# Altium integrated library USB.IntLib: 111 symbols (part 1 of 3)
Pins are listed as number, name and electrical type; pins without a type are passive.

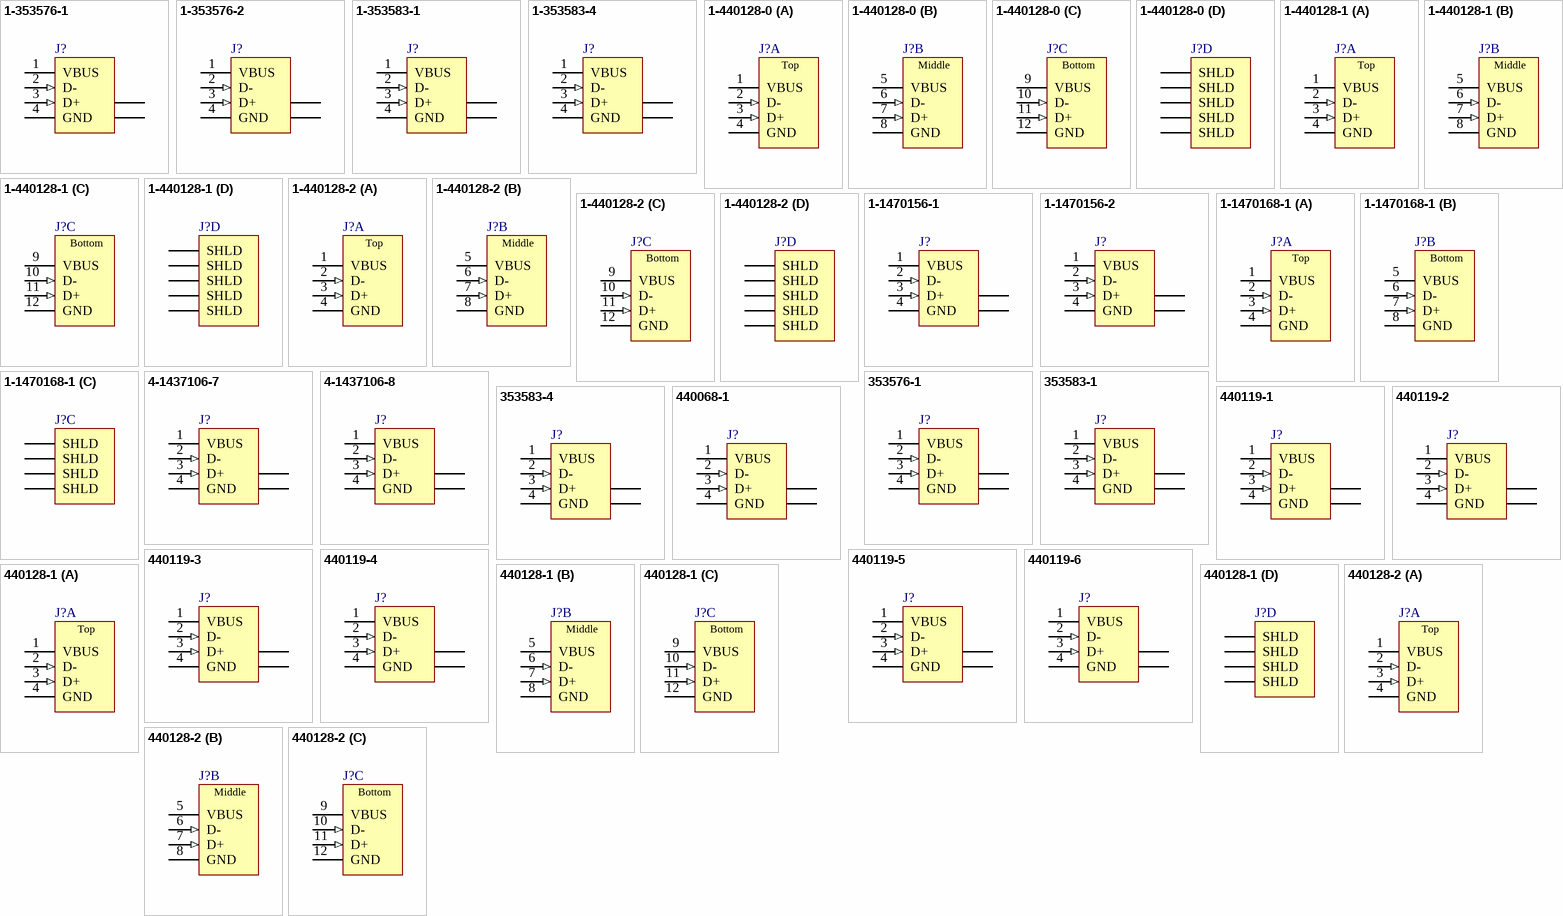
[diagram p0: symbols 1-353576-1 to 440128-2]

## 1-353576-1
designator J?
USB 1.1, Right Angle, SMT, A Type, Receptacle, 4 Position, White; ContactMaterial: Copper Alloy; ContactPlating: Gold over Palladium Nickel; PCB_Layout: Complies with manufacturer's recommendation.; DrillSize: Corresponds to nominal value.; PanelGround: Without; Published: 15-Jul-2004; DatasheetDocument: 11-Apr-2003; PackageDocument: 11-Apr-2003; PackageReference: 353576; Publisher: Altium Limited; HousingMaterial: Thermoplastic; ComponentLink1Description: Manufacturer Link; ComponentLink1URL: http://www.tycoelectronics.com/; ComponentLink2Description: Packaging Specification; ComponentLink2URL: http://ecommas.tycoelectronics.com/commerce/DocumentDelivery/DDEController?Action=showdoc&DocId=Customer+Drawing%7F353576%7FD%7Ftif%7FJapanese%7FJPN_CD_353576_D.tif
footprint 353576 (Connector; USB1.1, Type A, SM; 4 Position; Right Angle)
signal-integrity model USB1.1
pins: 1 VBUS (power) "Power", 2 D- (in) "-DATA", 3 D+ (in) "+DATA", 4 GND (power) "Ground", 5 SHLD "Shield", 6 SHLD "Shield"

## 1-353576-2
designator J?
USB 1.1, Right Angle, SMT, A Type, Receptacle, 4 Position, Black; ContactMaterial: Copper Alloy; ContactPlating: Gold over Palladium Nickel; PCB_Layout: Complies with manufacturer's recommendation.; DrillSize: Corresponds to nominal value.; PanelGround: Without; Published: 15-Jul-2004; DatasheetDocument: 11-Apr-2003; PackageDocument: 11-Apr-2003; PackageReference: 353576; Publisher: Altium Limited; HousingMaterial: Thermoplastic; ComponentLink1Description: Manufacturer Link; ComponentLink1URL: http://www.tycoelectronics.com/; ComponentLink2Description: Packaging Specification; ComponentLink2URL: http://ecommas.tycoelectronics.com/commerce/DocumentDelivery/DDEController?Action=showdoc&DocId=Customer+Drawing%7F353576%7FD%7Ftif%7FJapanese%7FJPN_CD_353576_D.tif
footprint 353576 (Connector; USB1.1, Type A, SM; 4 Position; Right Angle)
signal-integrity model USB1.1
pins: 1 VBUS (power) "Power", 2 D- (in) "-DATA", 3 D+ (in) "+DATA", 4 GND (power) "Ground", 5 SHLD "Shield", 6 SHLD "Shield"

## 1-353583-1
designator J?
USB 1.1, Right Angle, SMT, A Type, Receptacle, 4 Position, White; ContactMaterial: Copper Alloy; ContactPlating: Gold over Palladium Nickel; PCB_Layout: Complies with manufacturer's recommendation.; DrillSize: Corresponds to nominal value.; PanelGround: Without; Published: 15-Jul-2004; DatasheetDocument: 11-Apr-2003; PackageDocument: 11-Apr-2003; PackageReference: 353583; Publisher: Altium Limited; HousingMaterial: Thermoplastic; ComponentLink1Description: Manufacturer Link; ComponentLink1URL: http://www.tycoelectronics.com/; ComponentLink2Description: Packaging Specification; ComponentLink2URL: http://ecommas.tycoelectronics.com/commerce/DocumentDelivery/DDEController?Action=showdoc&DocId=Customer+Drawing%7F353583%7FD%7Ftif%7FJapanese%7FJPN_CD_353583_D.tif
footprint 353583 (Connector; USB1.1, Type A, SM; 4 Position; Right Angle)
signal-integrity model USB1.1
pins: 1 VBUS (power) "Power", 2 D- (in) "-DATA", 3 D+ (in) "+DATA", 4 GND (power) "Ground", 5 SHLD "Shield", 6 SHLD "Shield"

## 1-353583-4
designator J?
USB 1.1, Right Angle, SMT, A Type, Receptacle, 4 Position, Black; ContactMaterial: Copper Alloy; ContactPlating: Gold over Palladium Nickel; PCB_Layout: Complies with manufacturer's recommendation.; DrillSize: Corresponds to nominal value.; PanelGround: Without; Published: 15-Jul-2004; DatasheetDocument: 11-Apr-2003; PackageDocument: 11-Apr-2003; PackageReference: 353583; Publisher: Altium Limited; HousingMaterial: Thermoplastic; ComponentLink1Description: Manufacturer Link; ComponentLink1URL: http://www.tycoelectronics.com/; ComponentLink2Description: Packaging Specification; ComponentLink2URL: http://ecommas.tycoelectronics.com/commerce/DocumentDelivery/DDEController?Action=showdoc&DocId=Customer+Drawing%7F353583%7FD%7Ftif%7FJapanese%7FJPN_CD_353583_D.tif
footprint 353583 (Connector; USB1.1, Type A, SM; 4 Position; Right Angle)
signal-integrity model USB1.1
pins: 1 VBUS (power) "Power", 2 D- (in) "-DATA", 3 D+ (in) "+DATA", 4 GND (power) "Ground", 5 SHLD "Shield", 6 SHLD "Shield"

## 1-440128-0
designator J?
USB 1.1, Right Angle, Thru-Hole, A Type, Receptacle, 4x4x4 Position, Triple Stacked, Black; ContactMaterial: Copper Alloy; ContactPlating: Gold (5) over Nickel; TerminationLength: 2.84mm [0.112in.]; PCB_Layout: Complies with manufacturer's recommendation.; DrillSize: Corresponds to nominal value.; PanelGround: Without; Published: 15-Jul-2004; DatasheetDocument: 21-Sep-2001; PackageDocument: 21-Sep-2001; PackageReference: 440128B; Publisher: Altium Limited; HousingMaterial: Thermoplastic; ComponentLink1Description: Manufacturer Link; ComponentLink1URL: http://www.tycoelectronics.com/; ComponentLink2Description: Packaging Specification; ComponentLink2URL: http://ecommas.tycoelectronics.com/commerce/DocumentDelivery/DDEController?Action=showdoc&DocId=Customer+Drawing%7F440128%7FA%7Ftif%7FEnglish%7FC_440128_A.tif
footprint 440128B (Connector; USB1.1, Type A, Thru-Hole; 4x4x4 Position; Right Angle)
signal-integrity model USB1.1
part A pins: 1 VBUS (power) "Power", 2 D- (in) "-DATA", 3 D+ (in) "+DATA", 4 GND (power) "Ground"
part B pins: 5 VBUS (power) "Power", 6 D- (in) "-DATA", 7 D+ (in) "+DATA", 8 GND (power) "Ground"
part C pins: 9 VBUS (power) "Power", 10 D- (in) "-DATA", 11 D+ (in) "+DATA", 12 GND (power) "Ground"
part D pins: 13 SHLD "Shield", 14 SHLD "Shield", 15 SHLD "Shield", 16 SHLD "Shield", 17 SHLD "Shield"
part A text: Top
part B text: Middle
part C text: Bottom

## 1-440128-1
designator J?
USB 1.1, Right Angle, Thru-Hole, A Type, Receptacle, 4x4x4 Position, Triple Stacked, White; ContactMaterial: Copper Alloy; ContactPlating: Gold (30) over Nickel; TerminationLength: 2.84mm [0.112in.]; PCB_Layout: Complies with manufacturer's recommendation.; DrillSize: Corresponds to nominal value.; PanelGround: Without; Published: 15-Jul-2004; DatasheetDocument: 21-Sep-2001; PackageDocument: 21-Sep-2001; PackageReference: 440128B; Publisher: Altium Limited; HousingMaterial: Thermoplastic; ComponentLink1Description: Manufacturer Link; ComponentLink1URL: http://www.tycoelectronics.com/; ComponentLink2Description: Packaging Specification; ComponentLink2URL: http://ecommas.tycoelectronics.com/commerce/DocumentDelivery/DDEController?Action=showdoc&DocId=Customer+Drawing%7F440128%7FA%7Ftif%7FEnglish%7FC_440128_A.tif
footprint 440128B (Connector; USB1.1, Type A, Thru-Hole; 4x4x4 Position; Right Angle)
signal-integrity model USB1.1
part A pins: 1 VBUS (power) "Power", 2 D- (in) "-DATA", 3 D+ (in) "+DATA", 4 GND (power) "Ground"
part B pins: 5 VBUS (power) "Power", 6 D- (in) "-DATA", 7 D+ (in) "+DATA", 8 GND (power) "Ground"
part C pins: 9 VBUS (power) "Power", 10 D- (in) "-DATA", 11 D+ (in) "+DATA", 12 GND (power) "Ground"
part D pins: 13 SHLD "Shield", 14 SHLD "Shield", 15 SHLD "Shield", 16 SHLD "Shield", 17 SHLD "Shield"
part A text: Top
part B text: Middle
part C text: Bottom

## 1-440128-2
designator J?
USB 1.1, Right Angle, Thru-Hole, A Type, Receptacle, 4x4x4 Position, Triple Stacked, Black; ContactMaterial: Copper Alloy; ContactPlating: Gold (30) over Nickel; TerminationLength: 2.84mm [0.112in.]; PCB_Layout: Complies with manufacturer's recommendation.; DrillSize: Corresponds to nominal value.; PanelGround: Without; Published: 15-Jul-2004; DatasheetDocument: 21-Sep-2001; PackageDocument: 21-Sep-2001; PackageReference: 440128B; Publisher: Altium Limited; HousingMaterial: Thermoplastic; ComponentLink1Description: Manufacturer Link; ComponentLink1URL: http://www.tycoelectronics.com/; ComponentLink2Description: Packaging Specification; ComponentLink2URL: http://ecommas.tycoelectronics.com/commerce/DocumentDelivery/DDEController?Action=showdoc&DocId=Customer+Drawing%7F440128%7FA%7Ftif%7FEnglish%7FC_440128_A.tif
footprint 440128B (Connector; USB1.1, Type A, Thru-Hole; 4x4x4 Position; Right Angle)
signal-integrity model USB1.1
part A pins: 1 VBUS (power) "Power", 2 D- (in) "-DATA", 3 D+ (in) "+DATA", 4 GND (power) "Ground"
part B pins: 5 VBUS (power) "Power", 6 D- (in) "-DATA", 7 D+ (in) "+DATA", 8 GND (power) "Ground"
part C pins: 9 VBUS (power) "Power", 10 D- (in) "-DATA", 11 D+ (in) "+DATA", 12 GND (power) "Ground"
part D pins: 13 SHLD "Shield", 14 SHLD "Shield", 15 SHLD "Shield", 16 SHLD "Shield", 17 SHLD "Shield"
part A text: Top
part B text: Middle
part C text: Bottom

## 1-1470156-1
designator J?
USB 1.1, Right Angle, Thru-Hole, B Type, Receptacle, 4 Position, White; ContactMaterial: Phosphor Bronze; ContactPlating: Gold over Nickel; TerminationLength: 3.00mm [0.118in.]; PCB_Layout: Complies with manufacturer's recommendation.; DrillSize: Corresponds to nominal value.; PanelGround: Without; Published: 15-Jul-2004; DatasheetDocument: 02-Jun-2001; PackageDocument: 02-Jun-2001; PackageReference: 1-1470156; Publisher: Altium Limited; HousingMaterial: Glass-Filled Thermoplastic; ComponentLink1Description: Manufacturer Link; ComponentLink1URL: http://www.tycoelectronics.com/; ComponentLink2Description: Packaging Specification; ComponentLink2URL: http://ecommas.tycoelectronics.com/commerce/DocumentDelivery/DDEController?Action=showdoc&DocId=Customer+Drawing%7F1470156%7FO%7Ftif%7FEnglish%7FC_1470156_O.tif
footprint 1-1470156 (Connector; USB1.1, Type B, Thru-Hole; 4 Position; Right Angle)
signal-integrity model USB1.1
pins: 1 VBUS (power) "Power", 2 D- (in) "-DATA", 3 D+ (in) "+DATA", 4 GND (power) "Ground", 5 SHLD "Shield", 6 SHLD "Shield"

## 1-1470156-2
designator J?
USB 1.1, Right Angle, Thru-Hole, B Type, Receptacle, 4 Position, Black; ContactMaterial: Phosphor Bronze; ContactPlating: Gold over Nickel; TerminationLength: 3.00mm [0.118in.]; PCB_Layout: Complies with manufacturer's recommendation.; DrillSize: Corresponds to nominal value.; PanelGround: Without; Published: 15-Jul-2004; DatasheetDocument: 02-Jun-2001; PackageDocument: 02-Jun-2001; PackageReference: 1-1470156; Publisher: Altium Limited; HousingMaterial: Glass-Filled Thermoplastic; ComponentLink1Description: Manufacturer Link; ComponentLink1URL: http://www.tycoelectronics.com/; ComponentLink2Description: Packaging Specification; ComponentLink2URL: http://ecommas.tycoelectronics.com/commerce/DocumentDelivery/DDEController?Action=showdoc&DocId=Customer+Drawing%7F1470156%7FO%7Ftif%7FEnglish%7FC_1470156_O.tif
footprint 1-1470156 (Connector; USB1.1, Type B, Thru-Hole; 4 Position; Right Angle)
signal-integrity model USB1.1
pins: 1 VBUS (power) "Power", 2 D- (in) "-DATA", 3 D+ (in) "+DATA", 4 GND (power) "Ground", 5 SHLD "Shield", 6 SHLD "Shield"

## 1-1470168-1
designator J?
USB 1.1, Right Angle, Thru-Hole, A Type, Receptacle, 4x4 Position, Stacked, Black; ContactMaterial: Copper Alloy; ContactPlating: Gold Flash; TerminationLength: 3.18mm [0.125in.]; PCB_Layout: Complies with manufacturer's recommendation.; DrillSize: Corresponds to nominal value.; PanelGround: With; Published: 15-Jul-2004; DatasheetDocument: 15-Aug-2002; PackageDocument: 15-Aug-2002; PackageReference: 1470168; Publisher: Altium Limited; HousingMaterial: Glass-Filled Thermoplastic; ComponentLink1Description: Manufacturer Link; ComponentLink1URL: http://www.tycoelectronics.com/; ComponentLink2Description: Packaging Specification; ComponentLink2URL: http://ecommas.tycoelectronics.com/commerce/DocumentDelivery/DDEController?Action=showdoc&DocId=Customer+Drawing%7F1470168%7FA%7Fpdf%7FEnglish%7FC_1470168_A.pdf
footprint 1470168 (Connector; USB1.1, Type A, Thru-Hole; 4x4 Position; Right Angle)
signal-integrity model USB1.1
part A pins: 1 VBUS (power) "Power", 2 D- (in) "-DATA", 3 D+ (in) "+DATA", 4 GND (power) "Ground"
part B pins: 5 VBUS (power) "Power", 6 D- (in) "-DATA", 7 D+ (in) "+DATA", 8 GND (power) "Ground"
part C pins: 9 SHLD "Shield", 10 SHLD "Shield", 11 SHLD "Shield", 12 SHLD "Shield"
part A text: Top
part B text: Bottom

## 4-1437106-7
designator J?
USB 1.1, Right Angle, Thru-Hole, B Type, Receptacle, 4 Position, White; ContactMaterial: Copper Alloy; ContactPlating: Gold (30); TerminationLength: 2.90mm [0.114in.]; PCB_Layout: Complies with manufacturer's recommendation.; DrillSize: Corresponds to nominal value.; PanelGround: Without; Published: 15-Jul-2004; DatasheetDocument: 05-Jan-2004; PackageDocument: 05-Jan-2004; PackageReference: 1437106; Publisher: Altium Limited; HousingMaterial: Glass-Filled Thermoplastic; ComponentLink1Description: Manufacturer Link; ComponentLink1URL: http://www.tycoelectronics.com/; ComponentLink2Description: Packaging Specification; ComponentLink2URL: http://ecommas.tycoelectronics.com/commerce/DocumentDelivery/DDEController?Action=showdoc&DocId=Customer+Drawing%7F1437106%7FC%7Ftif%7FEnglish%7FENG_CD_1437106_C.tif
footprint 1437106 (Connector; USB1.1, Type B, Thru-Hole; 4 Position; Right Angle)
signal-integrity model USB1.1
pins: 1 VBUS (power) "Power", 2 D- (in) "-DATA", 3 D+ (in) "+DATA", 4 GND (power) "Ground", 5 SHLD "Shield", 6 SHLD "Shield"

## 4-1437106-8
designator J?
USB 1.1, Right Angle, Thru-Hole, B Type, Receptacle, 4 Position, Natural; ContactMaterial: Copper Alloy; ContactPlating: Gold (30); TerminationLength: 2.90mm [0.114in.]; PCB_Layout: Complies with manufacturer's recommendation.; DrillSize: Corresponds to nominal value.; PanelGround: Without; Published: 15-Jul-2004; DatasheetDocument: 05-Jan-2004; PackageDocument: 05-Jan-2004; PackageReference: 1437106; Publisher: Altium Limited; HousingMaterial: Glass-Filled Thermoplastic; ComponentLink1Description: Manufacturer Link; ComponentLink1URL: http://www.tycoelectronics.com/; ComponentLink2Description: Packaging Specification; ComponentLink2URL: http://ecommas.tycoelectronics.com/commerce/DocumentDelivery/DDEController?Action=showdoc&DocId=Customer+Drawing%7F1437106%7FC%7Ftif%7FEnglish%7FENG_CD_1437106_C.tif
footprint 1437106 (Connector; USB1.1, Type B, Thru-Hole; 4 Position; Right Angle)
signal-integrity model USB1.1
pins: 1 VBUS (power) "Power", 2 D- (in) "-DATA", 3 D+ (in) "+DATA", 4 GND (power) "Ground", 5 SHLD "Shield", 6 SHLD "Shield"

## 353576-1
designator J?
USB 1.1, Right Angle, SMT, A Type, Receptacle, 4 Position, White; ContactMaterial: Copper Alloy; ContactPlating: Gold over Palladium Nickel; PCB_Layout: Complies with manufacturer's recommendation.; DrillSize: Corresponds to nominal value.; PanelGround: Without; Published: 15-Jul-2004; DatasheetDocument: 11-Apr-2003; PackageDocument: 11-Apr-2003; PackageReference: 353576; Publisher: Altium Limited; HousingMaterial: Thermoplastic; ComponentLink1Description: Manufacturer Link; ComponentLink1URL: http://www.tycoelectronics.com/; ComponentLink2Description: Packaging Specification; ComponentLink2URL: http://ecommas.tycoelectronics.com/commerce/DocumentDelivery/DDEController?Action=showdoc&DocId=Customer+Drawing%7F353576%7FD%7Ftif%7FJapanese%7FJPN_CD_353576_D.tif
footprint 353576 (Connector; USB1.1, Type A, SM; 4 Position; Right Angle)
signal-integrity model USB1.1
pins: 1 VBUS (power) "Power", 2 D- (in) "-DATA", 3 D+ (in) "+DATA", 4 GND (power) "Ground", 5 SHLD "Shield", 6 SHLD "Shield"

## 353583-1
designator J?
USB 1.1, Right Angle, SMT, A Type, Receptacle, 4 Position, White; ContactMaterial: Copper Alloy; ContactPlating: Gold over Palladium Nickel; PCB_Layout: Complies with manufacturer's recommendation.; DrillSize: Corresponds to nominal value.; PanelGround: Without; Published: 15-Jul-2004; DatasheetDocument: 11-Apr-2003; PackageDocument: 11-Apr-2003; PackageReference: 353583; Publisher: Altium Limited; HousingMaterial: Thermoplastic; ComponentLink1Description: Manufacturer Link; ComponentLink1URL: http://www.tycoelectronics.com/; ComponentLink2Description: Packaging Specification; ComponentLink2URL: http://ecommas.tycoelectronics.com/commerce/DocumentDelivery/DDEController?Action=showdoc&DocId=Customer+Drawing%7F353583%7FD%7Ftif%7FJapanese%7FJPN_CD_353583_D.tif
footprint 353583 (Connector; USB1.1, Type A, SM; 4 Position; Right Angle)
signal-integrity model USB1.1
pins: 1 VBUS (power) "Power", 2 D- (in) "-DATA", 3 D+ (in) "+DATA", 4 GND (power) "Ground", 5 SHLD "Shield", 6 SHLD "Shield"

## 353583-4
designator J?
USB 1.1, Right Angle, SMT, A Type, Receptacle, 4 Position, Black; ContactMaterial: Copper Alloy; ContactPlating: Gold over Palladium Nickel; PCB_Layout: Complies with manufacturer's recommendation.; DrillSize: Corresponds to nominal value.; PanelGround: Without; Published: 15-Jul-2004; DatasheetDocument: 11-Apr-2003; PackageDocument: 11-Apr-2003; PackageReference: 353583; Publisher: Altium Limited; HousingMaterial: Thermoplastic; ComponentLink1Description: Manufacturer Link; ComponentLink1URL: http://www.tycoelectronics.com/; ComponentLink2Description: Packaging Specification; ComponentLink2URL: http://ecommas.tycoelectronics.com/commerce/DocumentDelivery/DDEController?Action=showdoc&DocId=Customer+Drawing%7F353583%7FD%7Ftif%7FJapanese%7FJPN_CD_353583_D.tif
footprint 353583 (Connector; USB1.1, Type A, SM; 4 Position; Right Angle)
signal-integrity model USB1.1
pins: 1 VBUS (power) "Power", 2 D- (in) "-DATA", 3 D+ (in) "+DATA", 4 GND (power) "Ground", 5 SHLD "Shield", 6 SHLD "Shield"

## 440068-1
designator J?
USB 1.1, Right Angle, Thru-Hole, Reverse Type, Receptacle, 4 Position, Black; ContactMaterial: Copper Alloy; ContactPlating: Gold Flash; TerminationLength: 2.40mm [0.094in.]; PCB_Layout: Complies with manufacturer's recommendation.; DrillSize: Corresponds to nominal value.; PanelGround: Without; Published: 15-Jul-2004; DatasheetDocument: 18-Mar-2004; PackageDocument: 18-Mar-2004; PackageReference: 440068; Publisher: Altium Limited; HousingMaterial: Glass-Filled Thermoplastic; ComponentLink1Description: Manufacturer Link; ComponentLink1URL: http://www.tycoelectronics.com/; ComponentLink2Description: Packaging Specification; ComponentLink2URL: http://ecommas.tycoelectronics.com/commerce/DocumentDelivery/DDEController?Action=showdoc&DocId=Customer+Drawing%7F440068%7FD%7Ftif%7FEnglish%7FC_440068_D.tif
footprint 440068 (Connector; USB1.1, Reverse Type, Thru-Hole; 4 Position; Right Angle)
signal-integrity model USB1.1
pins: 1 VBUS (power) "Power", 2 D- (in) "-DATA", 3 D+ (in) "+DATA", 4 GND (power) "Ground", 5 SHLD "Shield", 6 SHLD "Shield"

## 440119-1
designator J?
USB 1.1, Right Angle, Thru-Hole, B Type, Receptacle, 4 Position, Beige; ContactMaterial: Copper Alloy; ContactPlating: Gold Flash over Nickel; TerminationLength: 2.84mm [0.112in.]; PCB_Layout: Complies with manufacturer's recommendation.; DrillSize: Corresponds to nominal value.; PanelGround: Without; Published: 15-Jul-2004; DatasheetDocument: 12-Jan-2004; PackageDocument: 12-Jan-2004; PackageReference: 440119; Publisher: Altium Limited; HousingMaterial: Thermoplastic; ComponentLink1Description: Manufacturer Link; ComponentLink1URL: http://www.tycoelectronics.com/; ComponentLink2Description: Packaging Specification; ComponentLink2URL: http://ecommas.tycoelectronics.com/commerce/DocumentDelivery/DDEController?Action=showdoc&DocId=Customer+Drawing%7F440119%7FC%7Ftif%7FEnglish%7FC_440119_C.tif
footprint 440119 (Connector; USB1.1, Type B, Thru-Hole; 4 Position; Right Angle)
signal-integrity model USB1.1
pins: 1 VBUS (power) "Power", 2 D- (in) "-DATA", 3 D+ (in) "+DATA", 4 GND (power) "Ground", 5 SHLD "Shield", 6 SHLD "Shield"

## 440119-2
designator J?
USB 1.1, Right Angle, Thru-Hole, B Type, Receptacle, 4 Position, Black; ContactMaterial: Copper Alloy; ContactPlating: Gold Flash over Nickel; TerminationLength: 2.84mm [0.112in.]; PCB_Layout: Complies with manufacturer's recommendation.; DrillSize: Corresponds to nominal value.; PanelGround: Without; Published: 15-Jul-2004; DatasheetDocument: 12-Jan-2004; PackageDocument: 12-Jan-2004; PackageReference: 440119; Publisher: Altium Limited; HousingMaterial: Thermoplastic; ComponentLink1Description: Manufacturer Link; ComponentLink1URL: http://www.tycoelectronics.com/; ComponentLink2Description: Packaging Specification; ComponentLink2URL: http://ecommas.tycoelectronics.com/commerce/DocumentDelivery/DDEController?Action=showdoc&DocId=Customer+Drawing%7F440119%7FC%7Ftif%7FEnglish%7FC_440119_C.tif
footprint 440119 (Connector; USB1.1, Type B, Thru-Hole; 4 Position; Right Angle)
signal-integrity model USB1.1
pins: 1 VBUS (power) "Power", 2 D- (in) "-DATA", 3 D+ (in) "+DATA", 4 GND (power) "Ground", 5 SHLD "Shield", 6 SHLD "Shield"

## 440119-3
designator J?
USB 1.1, Right Angle, Thru-Hole, B Type, Receptacle, 4 Position, Beige; ContactMaterial: Copper Alloy; ContactPlating: Gold (5) over Nickel; TerminationLength: 2.84mm [0.112in.]; PCB_Layout: Complies with manufacturer's recommendation.; DrillSize: Corresponds to nominal value.; PanelGround: Without; Published: 15-Jul-2004; DatasheetDocument: 12-Jan-2004; PackageDocument: 12-Jan-2004; PackageReference: 440119; Publisher: Altium Limited; HousingMaterial: Thermoplastic; ComponentLink1Description: Manufacturer Link; ComponentLink1URL: http://www.tycoelectronics.com/; ComponentLink2Description: Packaging Specification; ComponentLink2URL: http://ecommas.tycoelectronics.com/commerce/DocumentDelivery/DDEController?Action=showdoc&DocId=Customer+Drawing%7F440119%7FC%7Ftif%7FEnglish%7FC_440119_C.tif
footprint 440119 (Connector; USB1.1, Type B, Thru-Hole; 4 Position; Right Angle)
signal-integrity model USB1.1
pins: 1 VBUS (power) "Power", 2 D- (in) "-DATA", 3 D+ (in) "+DATA", 4 GND (power) "Ground", 5 SHLD "Shield", 6 SHLD "Shield"

## 440119-4
designator J?
USB 1.1, Right Angle, Thru-Hole, B Type, Receptacle, 4 Position, Black; ContactMaterial: Copper Alloy; ContactPlating: Gold (5) over Nickel; TerminationLength: 2.84mm [0.112in.]; PCB_Layout: Complies with manufacturer's recommendation.; DrillSize: Corresponds to nominal value.; PanelGround: Without; Published: 15-Jul-2004; DatasheetDocument: 12-Jan-2004; PackageDocument: 12-Jan-2004; PackageReference: 440119; Publisher: Altium Limited; HousingMaterial: Thermoplastic; ComponentLink1Description: Manufacturer Link; ComponentLink1URL: http://www.tycoelectronics.com/; ComponentLink2Description: Packaging Specification; ComponentLink2URL: http://ecommas.tycoelectronics.com/commerce/DocumentDelivery/DDEController?Action=showdoc&DocId=Customer+Drawing%7F440119%7FC%7Ftif%7FEnglish%7FC_440119_C.tif
footprint 440119 (Connector; USB1.1, Type B, Thru-Hole; 4 Position; Right Angle)
signal-integrity model USB1.1
pins: 1 VBUS (power) "Power", 2 D- (in) "-DATA", 3 D+ (in) "+DATA", 4 GND (power) "Ground", 5 SHLD "Shield", 6 SHLD "Shield"

## 440119-5
designator J?
USB 1.1, Right Angle, Thru-Hole, B Type, Receptacle, 4 Position, Beige; ContactMaterial: Copper Alloy; ContactPlating: Gold (30) over Nickel; TerminationLength: 2.84mm [0.112in.]; PCB_Layout: Complies with manufacturer's recommendation.; DrillSize: Corresponds to nominal value.; PanelGround: Without; Published: 15-Jul-2004; DatasheetDocument: 12-Jan-2004; PackageDocument: 12-Jan-2004; PackageReference: 440119; Publisher: Altium Limited; HousingMaterial: Thermoplastic; ComponentLink1Description: Manufacturer Link; ComponentLink1URL: http://www.tycoelectronics.com/; ComponentLink2Description: Packaging Specification; ComponentLink2URL: http://ecommas.tycoelectronics.com/commerce/DocumentDelivery/DDEController?Action=showdoc&DocId=Customer+Drawing%7F440119%7FC%7Ftif%7FEnglish%7FC_440119_C.tif
footprint 440119 (Connector; USB1.1, Type B, Thru-Hole; 4 Position; Right Angle)
signal-integrity model USB1.1
pins: 1 VBUS (power) "Power", 2 D- (in) "-DATA", 3 D+ (in) "+DATA", 4 GND (power) "Ground", 5 SHLD "Shield", 6 SHLD "Shield"

## 440119-6
designator J?
USB 1.1, Right Angle, Thru-Hole, B Type, Receptacle, 4 Position, Black; ContactMaterial: Copper Alloy; ContactPlating: Gold (30) over Nickel; TerminationLength: 2.84mm [0.112in.]; PCB_Layout: Complies with manufacturer's recommendation.; DrillSize: Corresponds to nominal value.; PanelGround: Without; Published: 15-Jul-2004; DatasheetDocument: 12-Jan-2004; PackageDocument: 12-Jan-2004; PackageReference: 440119; Publisher: Altium Limited; HousingMaterial: Thermoplastic; ComponentLink1Description: Manufacturer Link; ComponentLink1URL: http://www.tycoelectronics.com/; ComponentLink2Description: Packaging Specification; ComponentLink2URL: http://ecommas.tycoelectronics.com/commerce/DocumentDelivery/DDEController?Action=showdoc&DocId=Customer+Drawing%7F440119%7FC%7Ftif%7FEnglish%7FC_440119_C.tif
footprint 440119 (Connector; USB1.1, Type B, Thru-Hole; 4 Position; Right Angle)
signal-integrity model USB1.1
pins: 1 VBUS (power) "Power", 2 D- (in) "-DATA", 3 D+ (in) "+DATA", 4 GND (power) "Ground", 5 SHLD "Shield", 6 SHLD "Shield"

## 440128-1
designator J?
USB 1.1, Right Angle, Thru-Hole, A Type, Receptacle, 4x4x4 Position, Triple Stacked, White; ContactMaterial: Copper Alloy; ContactPlating: Gold Flash over Nickel; TerminationLength: 2.84mm [0.112in.]; PCB_Layout: Complies with manufacturer's recommendation.; DrillSize: Corresponds to nominal value.; PanelGround: Without; Published: 15-Jul-2004; DatasheetDocument: 21-Sep-2001; PackageDocument: 21-Sep-2001; PackageReference: 440128A; Publisher: Altium Limited; HousingMaterial: Thermoplastic; ComponentLink1Description: Manufacturer Link; ComponentLink1URL: http://www.tycoelectronics.com/; ComponentLink2Description: Packaging Specification; ComponentLink2URL: http://ecommas.tycoelectronics.com/commerce/DocumentDelivery/DDEController?Action=showdoc&DocId=Customer+Drawing%7F440128%7FA%7Ftif%7FEnglish%7FC_440128_A.tif
footprint 440128A (Connector; USB1.1, Type A, Thru-Hole; 4x4x4 Position; Right Angle)
signal-integrity model USB1.1
part A pins: 1 VBUS (power) "Power", 2 D- (in) "-DATA", 3 D+ (in) "+DATA", 4 GND (power) "Ground"
part B pins: 5 VBUS (power) "Power", 6 D- (in) "-DATA", 7 D+ (in) "+DATA", 8 GND (power) "Ground"
part C pins: 9 VBUS (power) "Power", 10 D- (in) "-DATA", 11 D+ (in) "+DATA", 12 GND (power) "Ground"
part D pins: 13 SHLD "Shield", 14 SHLD "Shield", 15 SHLD "Shield", 16 SHLD "Shield"
part A text: Top
part B text: Middle
part C text: Bottom

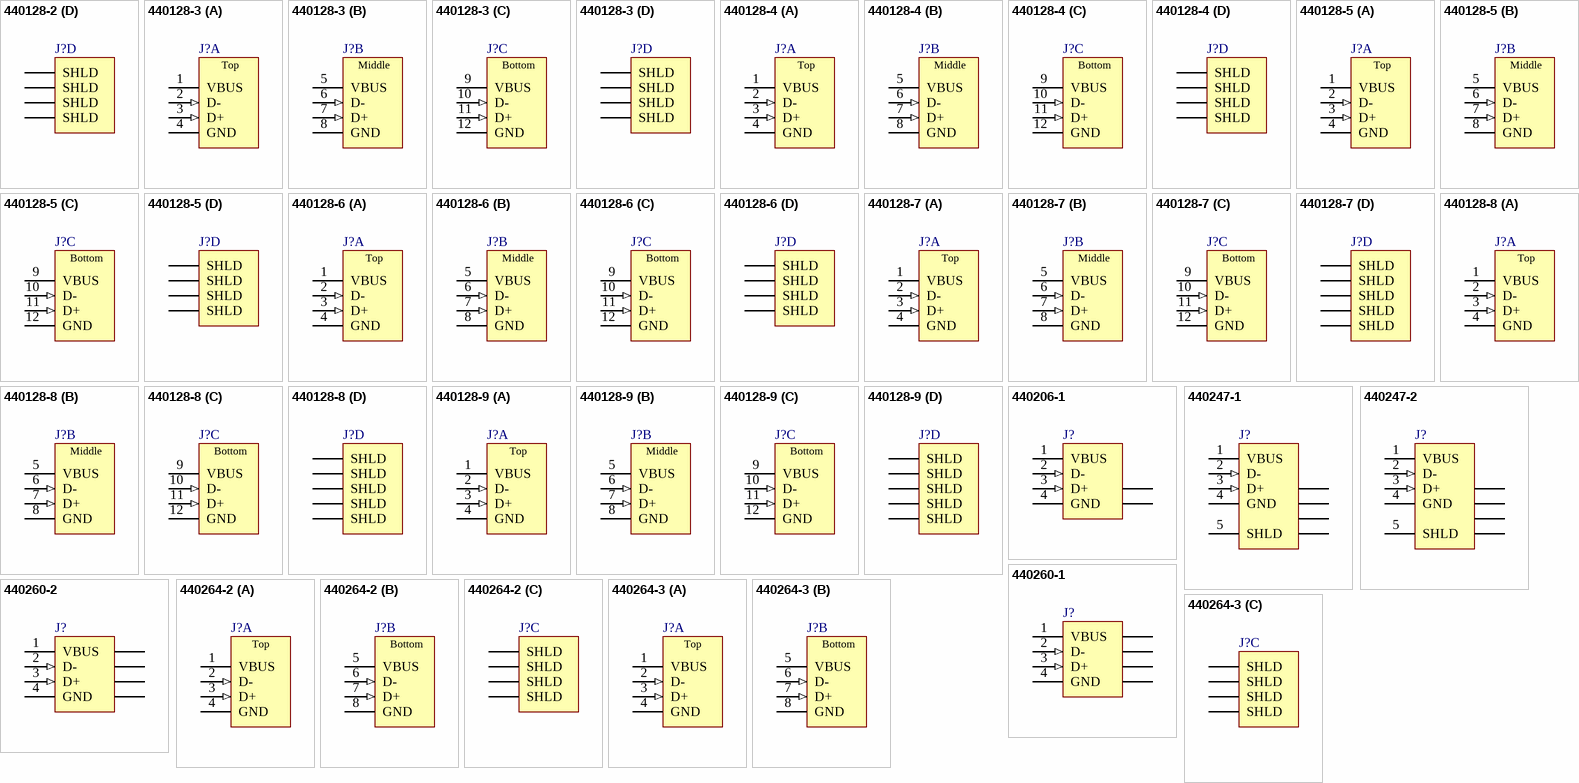
[diagram p1: symbols 440128-2 to 440264-3]

## 440128-2
designator J?
USB 1.1, Right Angle, Thru-Hole, A Type, Receptacle, 4x4x4 Position, Triple Stacked, Black; ContactMaterial: Copper Alloy; ContactPlating: Gold Flash over Nickel; TerminationLength: 2.84mm [0.112in.]; PCB_Layout: Complies with manufacturer's recommendation.; DrillSize: Corresponds to nominal value.; PanelGround: Without; Published: 15-Jul-2004; DatasheetDocument: 21-Sep-2001; PackageDocument: 21-Sep-2001; PackageReference: 440128A; Publisher: Altium Limited; HousingMaterial: Thermoplastic; ComponentLink1Description: Manufacturer Link; ComponentLink1URL: http://www.tycoelectronics.com/; ComponentLink2Description: Packaging Specification; ComponentLink2URL: http://ecommas.tycoelectronics.com/commerce/DocumentDelivery/DDEController?Action=showdoc&DocId=Customer+Drawing%7F440128%7FA%7Ftif%7FEnglish%7FC_440128_A.tif
footprint 440128A (Connector; USB1.1, Type A, Thru-Hole; 4x4x4 Position; Right Angle)
signal-integrity model USB1.1
part A pins: 1 VBUS (power) "Power", 2 D- (in) "-DATA", 3 D+ (in) "+DATA", 4 GND (power) "Ground"
part B pins: 5 VBUS (power) "Power", 6 D- (in) "-DATA", 7 D+ (in) "+DATA", 8 GND (power) "Ground"
part C pins: 9 VBUS (power) "Power", 10 D- (in) "-DATA", 11 D+ (in) "+DATA", 12 GND (power) "Ground"
part D pins: 13 SHLD "Shield", 14 SHLD "Shield", 15 SHLD "Shield", 16 SHLD "Shield"
part A text: Top
part B text: Middle
part C text: Bottom

## 440128-3
designator J?
USB 1.1, Right Angle, Thru-Hole, A Type, Receptacle, 4x4x4 Position, Triple Stacked, White; ContactMaterial: Copper Alloy; ContactPlating: Gold (5) over Nickel; TerminationLength: 2.84mm [0.112in.]; PCB_Layout: Complies with manufacturer's recommendation.; DrillSize: Corresponds to nominal value.; PanelGround: Without; Published: 15-Jul-2004; DatasheetDocument: 21-Sep-2001; PackageDocument: 21-Sep-2001; PackageReference: 440128A; Publisher: Altium Limited; HousingMaterial: Thermoplastic; ComponentLink1Description: Manufacturer Link; ComponentLink1URL: http://www.tycoelectronics.com/; ComponentLink2Description: Packaging Specification; ComponentLink2URL: http://ecommas.tycoelectronics.com/commerce/DocumentDelivery/DDEController?Action=showdoc&DocId=Customer+Drawing%7F440128%7FA%7Ftif%7FEnglish%7FC_440128_A.tif
footprint 440128A (Connector; USB1.1, Type A, Thru-Hole; 4x4x4 Position; Right Angle)
signal-integrity model USB1.1
part A pins: 1 VBUS (power) "Power", 2 D- (in) "-DATA", 3 D+ (in) "+DATA", 4 GND (power) "Ground"
part B pins: 5 VBUS (power) "Power", 6 D- (in) "-DATA", 7 D+ (in) "+DATA", 8 GND (power) "Ground"
part C pins: 9 VBUS (power) "Power", 10 D- (in) "-DATA", 11 D+ (in) "+DATA", 12 GND (power) "Ground"
part D pins: 13 SHLD "Shield", 14 SHLD "Shield", 15 SHLD "Shield", 16 SHLD "Shield"
part A text: Top
part B text: Middle
part C text: Bottom

## 440128-4
designator J?
USB 1.1, Right Angle, Thru-Hole, A Type, Receptacle, 4x4x4 Position, Triple Stacked, Black; ContactMaterial: Copper Alloy; ContactPlating: Gold (5) over Nickel; TerminationLength: 2.84mm [0.112in.]; PCB_Layout: Complies with manufacturer's recommendation.; DrillSize: Corresponds to nominal value.; PanelGround: Without; Published: 15-Jul-2004; DatasheetDocument: 21-Sep-2001; PackageDocument: 21-Sep-2001; PackageReference: 440128A; Publisher: Altium Limited; HousingMaterial: Thermoplastic; ComponentLink1Description: Manufacturer Link; ComponentLink1URL: http://www.tycoelectronics.com/; ComponentLink2Description: Packaging Specification; ComponentLink2URL: http://ecommas.tycoelectronics.com/commerce/DocumentDelivery/DDEController?Action=showdoc&DocId=Customer+Drawing%7F440128%7FA%7Ftif%7FEnglish%7FC_440128_A.tif
footprint 440128A (Connector; USB1.1, Type A, Thru-Hole; 4x4x4 Position; Right Angle)
signal-integrity model USB1.1
part A pins: 1 VBUS (power) "Power", 2 D- (in) "-DATA", 3 D+ (in) "+DATA", 4 GND (power) "Ground"
part B pins: 5 VBUS (power) "Power", 6 D- (in) "-DATA", 7 D+ (in) "+DATA", 8 GND (power) "Ground"
part C pins: 9 VBUS (power) "Power", 10 D- (in) "-DATA", 11 D+ (in) "+DATA", 12 GND (power) "Ground"
part D pins: 13 SHLD "Shield", 14 SHLD "Shield", 15 SHLD "Shield", 16 SHLD "Shield"
part A text: Top
part B text: Middle
part C text: Bottom

## 440128-5
designator J?
USB 1.1, Right Angle, Thru-Hole, A Type, Receptacle, 4x4x4 Position, Triple Stacked, White; ContactMaterial: Copper Alloy; ContactPlating: Gold (30) over Nickel; TerminationLength: 2.84mm [0.112in.]; PCB_Layout: Complies with manufacturer's recommendation.; DrillSize: Corresponds to nominal value.; PanelGround: Without; Published: 15-Jul-2004; DatasheetDocument: 21-Sep-2001; PackageDocument: 21-Sep-2001; PackageReference: 440128A; Publisher: Altium Limited; HousingMaterial: Thermoplastic; ComponentLink1Description: Manufacturer Link; ComponentLink1URL: http://www.tycoelectronics.com/; ComponentLink2Description: Packaging Specification; ComponentLink2URL: http://ecommas.tycoelectronics.com/commerce/DocumentDelivery/DDEController?Action=showdoc&DocId=Customer+Drawing%7F440128%7FA%7Ftif%7FEnglish%7FC_440128_A.tif
footprint 440128A (Connector; USB1.1, Type A, Thru-Hole; 4x4x4 Position; Right Angle)
signal-integrity model USB1.1
part A pins: 1 VBUS (power) "Power", 2 D- (in) "-DATA", 3 D+ (in) "+DATA", 4 GND (power) "Ground"
part B pins: 5 VBUS (power) "Power", 6 D- (in) "-DATA", 7 D+ (in) "+DATA", 8 GND (power) "Ground"
part C pins: 9 VBUS (power) "Power", 10 D- (in) "-DATA", 11 D+ (in) "+DATA", 12 GND (power) "Ground"
part D pins: 13 SHLD "Shield", 14 SHLD "Shield", 15 SHLD "Shield", 16 SHLD "Shield"
part A text: Top
part B text: Middle
part C text: Bottom

## 440128-6
designator J?
USB 1.1, Right Angle, Thru-Hole, A Type, Receptacle, 4x4x4 Position, Triple Stacked, Black; ContactMaterial: Copper Alloy; ContactPlating: Gold (30) over Nickel; TerminationLength: 2.84mm [0.112in.]; PCB_Layout: Complies with manufacturer's recommendation.; DrillSize: Corresponds to nominal value.; PanelGround: Without; Published: 15-Jul-2004; DatasheetDocument: 21-Sep-2001; PackageDocument: 21-Sep-2001; PackageReference: 440128A; Publisher: Altium Limited; HousingMaterial: Thermoplastic; ComponentLink1Description: Manufacturer Link; ComponentLink1URL: http://www.tycoelectronics.com/; ComponentLink2Description: Packaging Specification; ComponentLink2URL: http://ecommas.tycoelectronics.com/commerce/DocumentDelivery/DDEController?Action=showdoc&DocId=Customer+Drawing%7F440128%7FA%7Ftif%7FEnglish%7FC_440128_A.tif
footprint 440128A (Connector; USB1.1, Type A, Thru-Hole; 4x4x4 Position; Right Angle)
signal-integrity model USB1.1
part A pins: 1 VBUS (power) "Power", 2 D- (in) "-DATA", 3 D+ (in) "+DATA", 4 GND (power) "Ground"
part B pins: 5 VBUS (power) "Power", 6 D- (in) "-DATA", 7 D+ (in) "+DATA", 8 GND (power) "Ground"
part C pins: 9 VBUS (power) "Power", 10 D- (in) "-DATA", 11 D+ (in) "+DATA", 12 GND (power) "Ground"
part D pins: 13 SHLD "Shield", 14 SHLD "Shield", 15 SHLD "Shield", 16 SHLD "Shield"
part A text: Top
part B text: Middle
part C text: Bottom

## 440128-7
designator J?
USB 1.1, Right Angle, Thru-Hole, A Type, Receptacle, 4x4x4 Position, Triple Stacked, White; ContactMaterial: Copper Alloy; ContactPlating: Gold Flash over Nickel; TerminationLength: 2.84mm [0.112in.]; PCB_Layout: Complies with manufacturer's recommendation.; DrillSize: Corresponds to nominal value.; PanelGround: Without; Published: 15-Jul-2004; DatasheetDocument: 21-Sep-2001; PackageDocument: 21-Sep-2001; PackageReference: 440128B; Publisher: Altium Limited; HousingMaterial: Thermoplastic; ComponentLink1Description: Manufacturer Link; ComponentLink1URL: http://www.tycoelectronics.com/; ComponentLink2Description: Packaging Specification; ComponentLink2URL: http://ecommas.tycoelectronics.com/commerce/DocumentDelivery/DDEController?Action=showdoc&DocId=Customer+Drawing%7F440128%7FA%7Ftif%7FEnglish%7FC_440128_A.tif
footprint 440128B (Connector; USB1.1, Type A, Thru-Hole; 4x4x4 Position; Right Angle)
signal-integrity model USB1.1
part A pins: 1 VBUS (power) "Power", 2 D- (in) "-DATA", 3 D+ (in) "+DATA", 4 GND (power) "Ground"
part B pins: 5 VBUS (power) "Power", 6 D- (in) "-DATA", 7 D+ (in) "+DATA", 8 GND (power) "Ground"
part C pins: 9 VBUS (power) "Power", 10 D- (in) "-DATA", 11 D+ (in) "+DATA", 12 GND (power) "Ground"
part D pins: 13 SHLD "Shield", 14 SHLD "Shield", 15 SHLD "Shield", 16 SHLD "Shield", 17 SHLD "Shield"
part A text: Top
part B text: Middle
part C text: Bottom

## 440128-8
designator J?
USB 1.1, Right Angle, Thru-Hole, A Type, Receptacle, 4x4x4 Position, Triple Stacked, Black; ContactMaterial: Copper Alloy; ContactPlating: Gold Flash over Nickel; TerminationLength: 2.84mm [0.112in.]; PCB_Layout: Complies with manufacturer's recommendation.; DrillSize: Corresponds to nominal value.; PanelGround: Without; Published: 15-Jul-2004; DatasheetDocument: 21-Sep-2001; PackageDocument: 21-Sep-2001; PackageReference: 440128B; Publisher: Altium Limited; HousingMaterial: Thermoplastic; ComponentLink1Description: Manufacturer Link; ComponentLink1URL: http://www.tycoelectronics.com/; ComponentLink2Description: Packaging Specification; ComponentLink2URL: http://ecommas.tycoelectronics.com/commerce/DocumentDelivery/DDEController?Action=showdoc&DocId=Customer+Drawing%7F440128%7FA%7Ftif%7FEnglish%7FC_440128_A.tif
footprint 440128B (Connector; USB1.1, Type A, Thru-Hole; 4x4x4 Position; Right Angle)
signal-integrity model USB1.1
part A pins: 1 VBUS (power) "Power", 2 D- (in) "-DATA", 3 D+ (in) "+DATA", 4 GND (power) "Ground"
part B pins: 5 VBUS (power) "Power", 6 D- (in) "-DATA", 7 D+ (in) "+DATA", 8 GND (power) "Ground"
part C pins: 9 VBUS (power) "Power", 10 D- (in) "-DATA", 11 D+ (in) "+DATA", 12 GND (power) "Ground"
part D pins: 13 SHLD "Shield", 14 SHLD "Shield", 15 SHLD "Shield", 16 SHLD "Shield", 17 SHLD "Shield"
part A text: Top
part B text: Middle
part C text: Bottom

## 440128-9
designator J?
USB 1.1, Right Angle, Thru-Hole, A Type, Receptacle, 4x4x4 Position, Triple Stacked, White; ContactMaterial: Copper Alloy; ContactPlating: Gold (5) over Nickel; TerminationLength: 2.84mm [0.112in.]; PCB_Layout: Complies with manufacturer's recommendation.; DrillSize: Corresponds to nominal value.; PanelGround: Without; Published: 15-Jul-2004; DatasheetDocument: 21-Sep-2001; PackageDocument: 21-Sep-2001; PackageReference: 440128B; Publisher: Altium Limited; HousingMaterial: Thermoplastic; ComponentLink1Description: Manufacturer Link; ComponentLink1URL: http://www.tycoelectronics.com/; ComponentLink2Description: Packaging Specification; ComponentLink2URL: http://ecommas.tycoelectronics.com/commerce/DocumentDelivery/DDEController?Action=showdoc&DocId=Customer+Drawing%7F440128%7FA%7Ftif%7FEnglish%7FC_440128_A.tif
footprint 440128B (Connector; USB1.1, Type A, Thru-Hole; 4x4x4 Position; Right Angle)
signal-integrity model USB1.1
part A pins: 1 VBUS (power) "Power", 2 D- (in) "-DATA", 3 D+ (in) "+DATA", 4 GND (power) "Ground"
part B pins: 5 VBUS (power) "Power", 6 D- (in) "-DATA", 7 D+ (in) "+DATA", 8 GND (power) "Ground"
part C pins: 9 VBUS (power) "Power", 10 D- (in) "-DATA", 11 D+ (in) "+DATA", 12 GND (power) "Ground"
part D pins: 13 SHLD "Shield", 14 SHLD "Shield", 15 SHLD "Shield", 16 SHLD "Shield", 17 SHLD "Shield"
part A text: Top
part B text: Middle
part C text: Bottom

## 440206-1
designator J?
USB 1.1, Vertical, Thru-Hole, B Type, Receptacle, 4 Position, White; ContactMaterial: Copper Alloy; ContactPlating: Gold (30) over Nickel; TerminationLength: 2.84mm [0.112in.]; PCB_Layout: Complies with manufacturer's recommendation.; DrillSize: Corresponds to nominal value.; PanelGround: Without; Published: 15-Jul-2004; DatasheetDocument: 04-May-2001; PackageDocument: 04-May-2001; PackageReference: 440206; Publisher: Altium Limited; HousingMaterial: Thermoplastic; ComponentLink1Description: Manufacturer Link; ComponentLink1URL: http://www.tycoelectronics.com/; ComponentLink2Description: Packaging Specification; ComponentLink2URL: http://ecommas.tycoelectronics.com/commerce/DocumentDelivery/DDEController?Action=showdoc&DocId=Customer+Drawing%7F440206%7FA%7Ftif%7FEnglish%7FC_440206_A.tif
footprint 440206 (Connector; USB1.1, Type B, Thru-Hole; 4 Position; Vertical)
signal-integrity model USB1.1
pins: 1 VBUS (power) "Power", 2 D- (in) "-DATA", 3 D+ (in) "+DATA", 4 GND (power) "Ground", 5 SHLD "Shield", 6 SHLD "Shield"

## 440247-1
designator J?
USB 2.0, Right Angle, SMT, B Type, Receptacle, 5 Position, Black; ContactMaterial: Copper Alloy; ContactPlating: Gold (30); PCB_Layout: Complies with manufacturer's recommendation.; DrillSize: Corresponds to nominal value.; PanelGround: Without; Published: 15-Jul-2004; DatasheetDocument: 27-Jun-2003; PackageDocument: 27-Jun-2003; PackageReference: 440247; Publisher: Altium Limited; HousingMaterial: Thermoplastic; ComponentLink1Description: Manufacturer Link; ComponentLink1URL: http://www.tycoelectronics.com/; ComponentLink2Description: Packaging Specification; ComponentLink2URL: http://ecommas.tycoelectronics.com/commerce/DocumentDelivery/DDEController?Action=showdoc&DocId=Customer+Drawing%7F440247%7FD%7Fpdf%7FEnglish%7FC_440247_D.pdf
footprint 440247 (Connector; USB2.0, Type B, SM; 5 Position; Right Angle)
signal-integrity model USB2.0
pins: 1 VBUS (power) "Power", 2 D- (in) "-DATA", 3 D+ (in) "+DATA", 4 GND (power) "Ground", 5 SHLD "Shield", 6 SHLD "Shield", 7 SHLD "Shield", 8 SHLD "Shield", 9 SHLD "Shield"

## 440247-2
designator J?
USB 2.0, Right Angle, SMT, B Type, Receptacle, 5 Position, Black; Note: Directive 2000/53/EC (ELV) Compliant; ContactMaterial: Copper Alloy; ContactPlating: Gold (30); PCB_Layout: Complies with manufacturer's recommendation.; DrillSize: Corresponds to nominal value.; PanelGround: Without; Published: 15-Jul-2004; DatasheetDocument: 27-Jun-2003; PackageDocument: 27-Jun-2003; PackageReference: 440247; Publisher: Altium Limited; HousingMaterial: Thermoplastic; ComponentLink1Description: Manufacturer Link; ComponentLink1URL: http://www.tycoelectronics.com/; ComponentLink2Description: Packaging Specification; ComponentLink2URL: http://ecommas.tycoelectronics.com/commerce/DocumentDelivery/DDEController?Action=showdoc&DocId=Customer+Drawing%7F440247%7FD%7Fpdf%7FEnglish%7FC_440247_D.pdf
footprint 440247 (Connector; USB2.0, Type B, SM; 5 Position; Right Angle)
signal-integrity model USB2.0
pins: 1 VBUS (power) "Power", 2 D- (in) "-DATA", 3 D+ (in) "+DATA", 4 GND (power) "Ground", 5 SHLD "Shield", 6 SHLD "Shield", 7 SHLD "Shield", 8 SHLD "Shield", 9 SHLD "Shield"

## 440260-1
designator J?
USB 1.1, Right Angle, Thru-Hole, A Type, Receptacle, 4 Position, Black; ContactMaterial: Copper Alloy; ContactPlating: Gold (30) over Palladium Nickel; TerminationLength: 2.29mm [0.090in.]; PCB_Layout: Complies with manufacturer's recommendation.; DrillSize: Corresponds to nominal value.; PanelGround: Without; Published: 15-Jul-2004; DatasheetDocument: 28-Feb-2003; PackageDocument: 28-Feb-2003; PackageReference: 440260; Publisher: Altium Limited; HousingMaterial: Thermoplastic; ComponentLink1Description: Manufacturer Link; ComponentLink1URL: http://www.tycoelectronics.com/; ComponentLink2Description: Packaging Specification; ComponentLink2URL: http://ecommas.tycoelectronics.com/commerce/DocumentDelivery/DDEController?Action=showdoc&DocId=Customer+Drawing%7F440260%7FC%7Fpdf%7FEnglish%7FENG_CD_440260_C.pdf
footprint 440260 (Connector; USB1.1, Type A, Thru-Hole; 4 Position; Right Angle)
signal-integrity model USB1.1
pins: 1 VBUS (power) "Power", 2 D- (in) "-DATA", 3 D+ (in) "+DATA", 4 GND (power) "Ground", 5 SHLD "Shield", 6 SHLD "Shield", 7 SHLD "Shield", 8 SHLD "Shield"

## 440260-2
designator J?
USB 1.1, Right Angle, Thru-Hole, A Type, Receptacle, 4 Position, Natural; ContactMaterial: Phosphor Bronze; ContactPlating: Gold (30) over Palladium Nickel; TerminationLength: 2.29mm [0.090in.]; PCB_Layout: Complies with manufacturer's recommendation.; DrillSize: Corresponds to nominal value.; PanelGround: Without; Published: 15-Jul-2004; DatasheetDocument: 28-Feb-2003; PackageDocument: 28-Feb-2003; PackageReference: 440260; Publisher: Altium Limited; HousingMaterial: Thermoplastic; ComponentLink1Description: Manufacturer Link; ComponentLink1URL: http://www.tycoelectronics.com/; ComponentLink2Description: Packaging Specification; ComponentLink2URL: http://ecommas.tycoelectronics.com/commerce/DocumentDelivery/DDEController?Action=showdoc&DocId=Customer+Drawing%7F440260%7FC%7Fpdf%7FEnglish%7FENG_CD_440260_C.pdf
footprint 440260 (Connector; USB1.1, Type A, Thru-Hole; 4 Position; Right Angle)
signal-integrity model USB1.1
pins: 1 VBUS (power) "Power", 2 D- (in) "-DATA", 3 D+ (in) "+DATA", 4 GND (power) "Ground", 5 SHLD "Shield", 6 SHLD "Shield", 7 SHLD "Shield", 8 SHLD "Shield"

## 440264-2
designator J?
USB 1.1, Right Angle, Thru-Hole, A Type, Receptacle, 4x4 Position, Stacked, Black; ContactMaterial: Copper Alloy; ContactPlating: Gold (30) over Palladium Nickel; TerminationLength: 2.29mm [0.090in.]; PCB_Layout: Complies with manufacturer's recommendation.; DrillSize: Corresponds to nominal value.; PanelGround: Without; Published: 15-Jul-2004; DatasheetDocument: 11-Jan-2004; PackageDocument: 11-Jan-2004; PackageReference: 440264; Publisher: Altium Limited; HousingMaterial: Thermoplastic; ComponentLink1Description: Manufacturer Link; ComponentLink1URL: http://www.tycoelectronics.com/; ComponentLink2Description: Packaging Specification; ComponentLink2URL: http://ecommas.tycoelectronics.com/commerce/DocumentDelivery/DDEController?Action=showdoc&DocId=Customer+Drawing%7F440264%7FC%7Ftif%7FEnglish%7FENG_CD_440264_C.tif
footprint 440264 (Connector; USB1.1, Type A, Thru-Hole; 4x4 Position; Right Angle)
signal-integrity model USB1.1
part A pins: 1 VBUS (power) "Power", 2 D- (in) "-DATA", 3 D+ (in) "+DATA", 4 GND (power) "Ground"
part B pins: 5 VBUS (power) "Power", 6 D- (in) "-DATA", 7 D+ (in) "+DATA", 8 GND (power) "Ground"
part C pins: 9 SHLD "Shield", 10 SHLD "Shield", 11 SHLD "Shield", 12 SHLD "Shield"
part A text: Top
part B text: Bottom

## 440264-3
designator J?
USB 1.1, Right Angle, Thru-Hole, A Type, Receptacle, 4x4 Position, Stacked, Natural; ContactMaterial: Copper Alloy; ContactPlating: Gold (30) over Palladium Nickel; TerminationLength: 2.84mm [0.112in.]; PCB_Layout: Complies with manufacturer's recommendation.; DrillSize: Corresponds to nominal value.; PanelGround: Without; Published: 15-Jul-2004; DatasheetDocument: 11-Jan-2004; PackageDocument: 11-Jan-2004; PackageReference: 440264; Publisher: Altium Limited; HousingMaterial: Thermoplastic; ComponentLink1Description: Manufacturer Link; ComponentLink1URL: http://www.tycoelectronics.com/; ComponentLink2Description: Packaging Specification; ComponentLink2URL: http://ecommas.tycoelectronics.com/commerce/DocumentDelivery/DDEController?Action=showdoc&DocId=Customer+Drawing%7F440264%7FC%7Ftif%7FEnglish%7FENG_CD_440264_C.tif
footprint 440264 (Connector; USB1.1, Type A, Thru-Hole; 4x4 Position; Right Angle)
signal-integrity model USB1.1
part A pins: 1 VBUS (power) "Power", 2 D- (in) "-DATA", 3 D+ (in) "+DATA", 4 GND (power) "Ground"
part B pins: 5 VBUS (power) "Power", 6 D- (in) "-DATA", 7 D+ (in) "+DATA", 8 GND (power) "Ground"
part C pins: 9 SHLD "Shield", 10 SHLD "Shield", 11 SHLD "Shield", 12 SHLD "Shield"
part A text: Top
part B text: Bottom

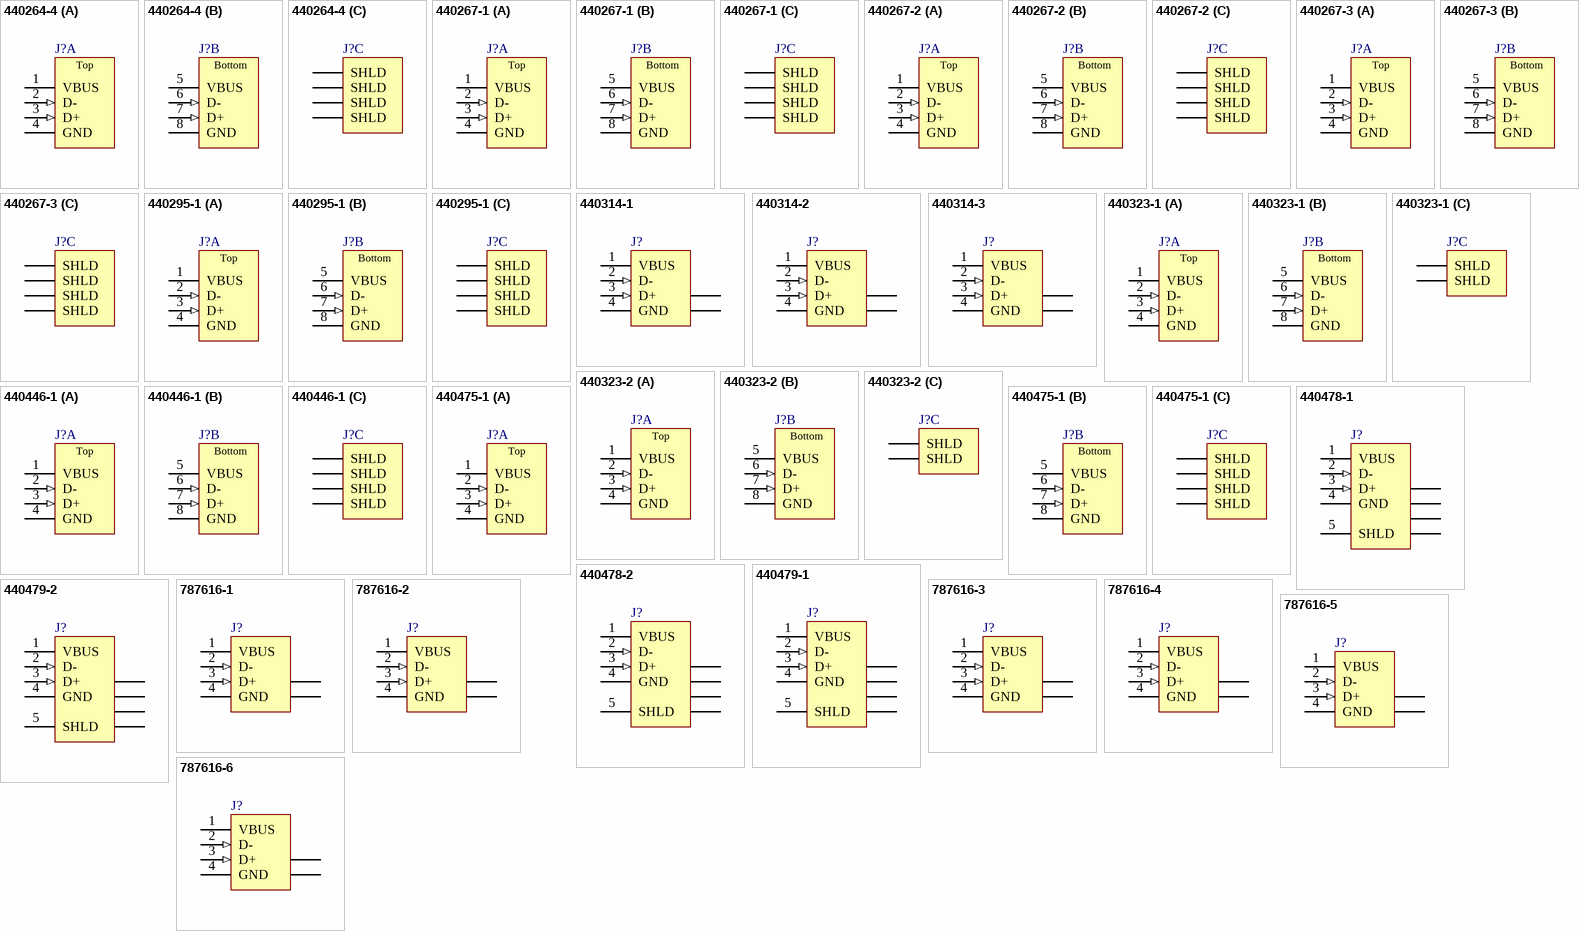
[diagram p2: symbols 440264-4 to 787616-6]

## 440264-4
designator J?
USB 1.1, Right Angle, Thru-Hole, A Type, Receptacle, 4x4 Position, Stacked, Black; ContactMaterial: Copper Alloy; ContactPlating: Gold (50) over Nickel (30); TerminationLength: 2.84mm [0.112in.]; PCB_Layout: Complies with manufacturer's recommendation.; DrillSize: Corresponds to nominal value.; PanelGround: Without; Published: 15-Jul-2004; DatasheetDocument: 11-Jan-2004; PackageDocument: 11-Jan-2004; PackageReference: 440264; Publisher: Altium Limited; HousingMaterial: Thermoplastic; ComponentLink1Description: Manufacturer Link; ComponentLink1URL: http://www.tycoelectronics.com/; ComponentLink2Description: Packaging Specification; ComponentLink2URL: http://ecommas.tycoelectronics.com/commerce/DocumentDelivery/DDEController?Action=showdoc&DocId=Customer+Drawing%7F440264%7FC%7Ftif%7FEnglish%7FENG_CD_440264_C.tif
footprint 440264 (Connector; USB1.1, Type A, Thru-Hole; 4x4 Position; Right Angle)
signal-integrity model USB1.1
part A pins: 1 VBUS (power) "Power", 2 D- (in) "-DATA", 3 D+ (in) "+DATA", 4 GND (power) "Ground"
part B pins: 5 VBUS (power) "Power", 6 D- (in) "-DATA", 7 D+ (in) "+DATA", 8 GND (power) "Ground"
part C pins: 9 SHLD "Shield", 10 SHLD "Shield", 11 SHLD "Shield", 12 SHLD "Shield"
part A text: Top
part B text: Bottom

## 440267-1
designator J?
USB 1.1, Right Angle, Thru-Hole, A Type, Receptacle, 4x4 Position, Stacked, Black; ComponentAvailability: Not Available; ContactMaterial: Copper Alloy; ContactPlating: Gold (30) over Palladium Nickel; TerminationLength: 2.84mm [0.112in.]; PCB_Layout: Complies with manufacturer's recommendation.; DrillSize: Corresponds to nominal value.; PanelGround: Without; Published: 15-Jul-2004; DatasheetDocument: 11-Jan-2004; PackageDocument: 11-Jan-2004; PackageReference: 440267; Publisher: Altium Limited; HousingMaterial: Thermoplastic; ComponentLink1Description: Manufacturer Link; ComponentLink1URL: http://www.tycoelectronics.com/; ComponentLink2Description: Packaging Specification; ComponentLink2URL: http://ecommas.tycoelectronics.com/commerce/DocumentDelivery/DDEController?Action=showdoc&DocId=Customer+Drawing%7F440267%7FC%7Ftif%7FEnglish%7FENG_CD_440267_C.tif
footprint 440267 (Connector; USB1.1, Type A, Thru-Hole; 4x4 Position; Right Angle)
signal-integrity model USB1.1
part A pins: 1 VBUS (power) "Power", 2 D- (in) "-DATA", 3 D+ (in) "+DATA", 4 GND (power) "Ground"
part B pins: 5 VBUS (power) "Power", 6 D- (in) "-DATA", 7 D+ (in) "+DATA", 8 GND (power) "Ground"
part C pins: 9 SHLD "Shield", 10 SHLD "Shield", 11 SHLD "Shield", 12 SHLD "Shield"
part A text: Top
part B text: Bottom

## 440267-2
designator J?
USB 1.1, Right Angle, Thru-Hole, A Type, Receptacle, 4x4 Position, Stacked, Black; ComponentAvailability: Not Available; ContactMaterial: Copper Alloy; ContactPlating: Gold (30) over Palladium Nickel; TerminationLength: 2.29mm [0.090in.]; PCB_Layout: Complies with manufacturer's recommendation.; DrillSize: Corresponds to nominal value.; PanelGround: Without; Published: 15-Jul-2004; DatasheetDocument: 11-Jan-2004; PackageDocument: 11-Jan-2004; PackageReference: 440267; Publisher: Altium Limited; HousingMaterial: Thermoplastic; ComponentLink1Description: Manufacturer Link; ComponentLink1URL: http://www.tycoelectronics.com/; ComponentLink2Description: Packaging Specification; ComponentLink2URL: http://ecommas.tycoelectronics.com/commerce/DocumentDelivery/DDEController?Action=showdoc&DocId=Customer+Drawing%7F440267%7FC%7Ftif%7FEnglish%7FENG_CD_440267_C.tif
footprint 440267 (Connector; USB1.1, Type A, Thru-Hole; 4x4 Position; Right Angle)
signal-integrity model USB1.1
part A pins: 1 VBUS (power) "Power", 2 D- (in) "-DATA", 3 D+ (in) "+DATA", 4 GND (power) "Ground"
part B pins: 5 VBUS (power) "Power", 6 D- (in) "-DATA", 7 D+ (in) "+DATA", 8 GND (power) "Ground"
part C pins: 9 SHLD "Shield", 10 SHLD "Shield", 11 SHLD "Shield", 12 SHLD "Shield"
part A text: Top
part B text: Bottom

## 440267-3
designator J?
USB 1.1, Right Angle, Thru-Hole, A Type, Receptacle, 4x4 Position, Stacked, Natural; ComponentAvailability: Not Available; ContactMaterial: Copper Alloy; ContactPlating: Gold (30) over Palladium Nickel; TerminationLength: 2.84mm [0.112in.]; PCB_Layout: Complies with manufacturer's recommendation.; DrillSize: Corresponds to nominal value.; PanelGround: Without; Published: 15-Jul-2004; DatasheetDocument: 11-Jan-2004; PackageDocument: 11-Jan-2004; PackageReference: 440267; Publisher: Altium Limited; HousingMaterial: Thermoplastic; ComponentLink1Description: Manufacturer Link; ComponentLink1URL: http://www.tycoelectronics.com/; ComponentLink2Description: Packaging Specification; ComponentLink2URL: http://ecommas.tycoelectronics.com/commerce/DocumentDelivery/DDEController?Action=showdoc&DocId=Customer+Drawing%7F440267%7FC%7Ftif%7FEnglish%7FENG_CD_440267_C.tif
footprint 440267 (Connector; USB1.1, Type A, Thru-Hole; 4x4 Position; Right Angle)
signal-integrity model USB1.1
part A pins: 1 VBUS (power) "Power", 2 D- (in) "-DATA", 3 D+ (in) "+DATA", 4 GND (power) "Ground"
part B pins: 5 VBUS (power) "Power", 6 D- (in) "-DATA", 7 D+ (in) "+DATA", 8 GND (power) "Ground"
part C pins: 9 SHLD "Shield", 10 SHLD "Shield", 11 SHLD "Shield", 12 SHLD "Shield"
part A text: Top
part B text: Bottom